# EAGLE library part RPI (library DEEP_MainBoard)
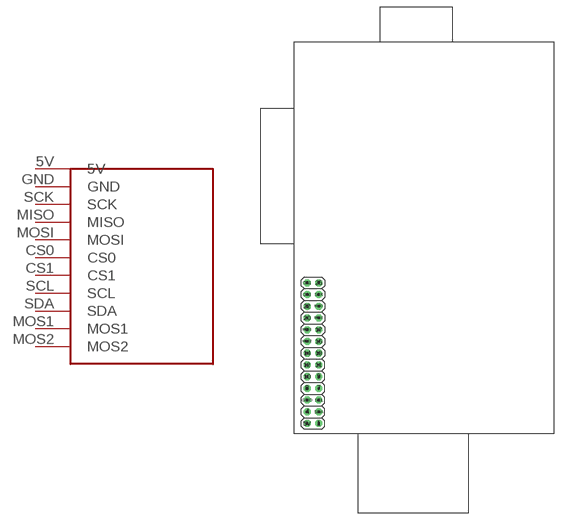
[diagram p2: symbol with the pads of RPI; footprint RPI]

Designator prefix -

## RPI  [RPI]
5V  5V
CS0  CS0
CS1  CS1
GND  GND
MISO  MISO
MOS1  MOS1
MOS2  MOS2
MOSI  MOSI
SCK  SCK
SCL  SCL
SDA  SDA

## Footprint RPI (pad centres in mm)
drill 1.016 octagon: 1 5.32,2.28; 4 2.78,4.82; 5V 2.78,2.28; 7 5.32,9.9; 8 2.78,9.9; 9 5.32,12.44; 10 2.78,12.44; 11 5.32,14.98; 12 2.78,14.98; 13 5.32,17.52; 14 2.78,17.52; 15 5.32,20.06; 17 5.32,22.6; 20 2.78,25.14; 22 2.78,27.68; 25 5.32,32.76; CS0 2.78,30.22; CS1 2.78,32.76; GND 2.78,7.36; MISO 5.32,27.68; MOS1 2.78,22.6; MOS2 2.78,20.06; MOSI 5.32,25.14; SCK 5.32,30.22; SCL 5.32,7.36; SDA 5.32,4.82